# Altium footprint library SG_PCB_Fomin.PcbLib: 17 footprints (part 2 of 2)
Each footprint in its own frame and in the unit in brackets; x right, y up, seen from the top. Pads: shape width x height; smd on the part's side, far side on the other; paste and mask are expansions set on the pad; w line width, h text height; cw(c..) or ccw(c..) is an arc to the next point about the centre after c.
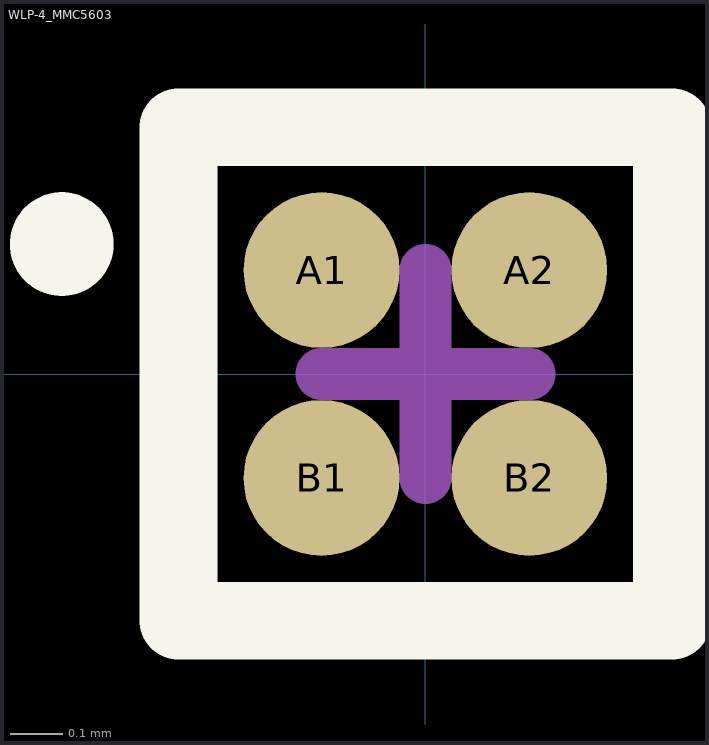
[diagram p1: the footprint, top view; thin cyan lines are the x and y axes]

## WLP-4_MMC5603 [mm]
pads (4):
  round 0.3 smd: A1(-0.2,0.2) A2(0.2,0.2) B1(-0.2,-0.2) B2(0.2,-0.2)
Top Overlay:
  lines w0.1: -0.7,0.2 ccw(c-0.7,0.25) -0.7,0.3 ccw(c-0.7,0.25) -0.7,0.2
  lines w0.15: -0.475,-0.475 0.475,-0.475 0.475,0.475 -0.475,0.475 -0.475,-0.475
Top Assembly:
  lines w0.05: -0.45,-0.45 0.45,-0.45 0.45,0.45 -0.45,0.45 -0.45,-0.45
Top Courtyard:
  lines w0.05: -0.475,-0.475 0.475,-0.475 0.475,0.475 -0.475,0.475 -0.475,-0.475
  lines w0.1: -0.2,0 0.2,0 ; 0,-0.2 0,0.2
Top Designator:
  text ".Designator" at -11.218,1.492 h1.52
3D body "MMC5603NJ.stp": height 0.7, standoff 0, extent -0.41,-0.41 0.41,0.41